# Altium footprint library ANT.PcbLib: 1 footprints
Each footprint in its own frame and in the unit in brackets; x right, y up, seen from the top. Pads: shape width x height; smd on the part's side, far side on the other; paste and mask are expansions set on the pad; w line width, h text height; cw(c..) or ccw(c..) is an arc to the next point about the centre after c.
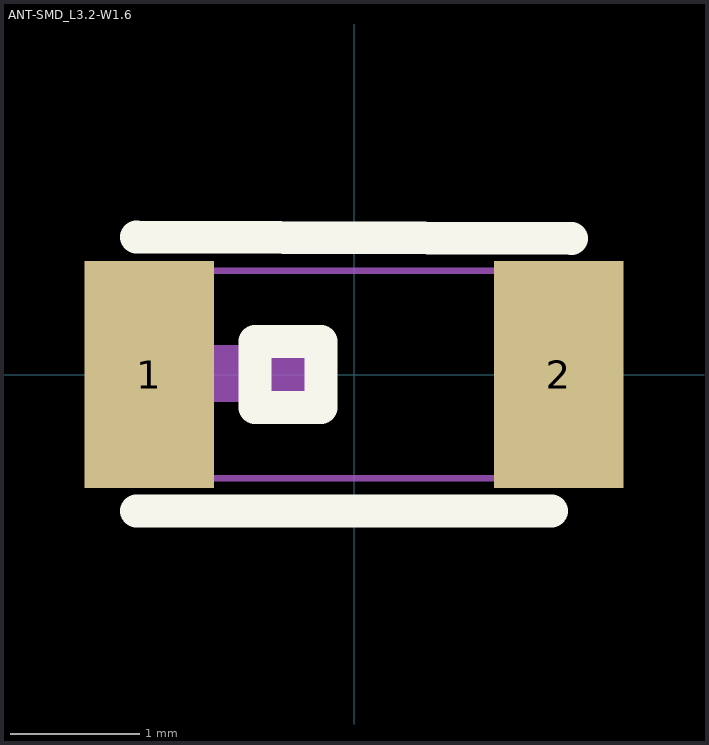
[diagram p0: the footprint, top view; thin cyan lines are the x and y axes]

## ANT-SMD_L3.2-W1.6 [mm]
pads (2):
  rect 1x1.75 smd: 1(-1.578,0) 2(1.578,0)
Top Overlay:
  lines w0.254: -1.676,-1.05 1.524,-1.05 ; -1.676,1.06 1.676,1.05 ; -0.762,-0.254 -0.254,-0.254 -0.254,0.254 -0.762,0.254 -0.762,-0.254
Mechanical 6:
  region: -1.26,0.228 -0.284,0.228 -0.284,-0.207 -1.26,-0.212 -1.26,-0.18
Mechanical 15:
  region: -1.6,0.8 -1.1,0.8 -1.1,-0.8 -1.6,-0.8
  region: 1.1,0.8 1.6,0.8 1.6,-0.8 1.1,-0.8
  region: -1.54,-0.8 -1.54,-0.825 -1.575,-0.86 -1.625,-0.86 -1.66,-0.825 -1.66,-0.8 -1.66,-0.775 -1.625,-0.74 -1.575,-0.74 -1.54,-0.775 -1.54,-0.8
  lines w0.051: -1.6,-0.8 -1.6,0.8 1.6,0.8 1.6,-0.8 -1.6,-0.8
3D body "ANT3216LL00R2400A.stp": height 1.21, standoff 0, extent -1.6,-0.801 1.6,0.801